# Altium footprint library X.PcbLib: 77 footprints (part 1 of 5)
Each footprint in its own frame and in the unit in brackets; x right, y up, seen from the top. Pads: shape width x height; smd on the part's side, far side on the other; paste and mask are expansions set on the pad; w line width, h text height; cw(c..) or ccw(c..) is an arc to the next point about the centre after c.
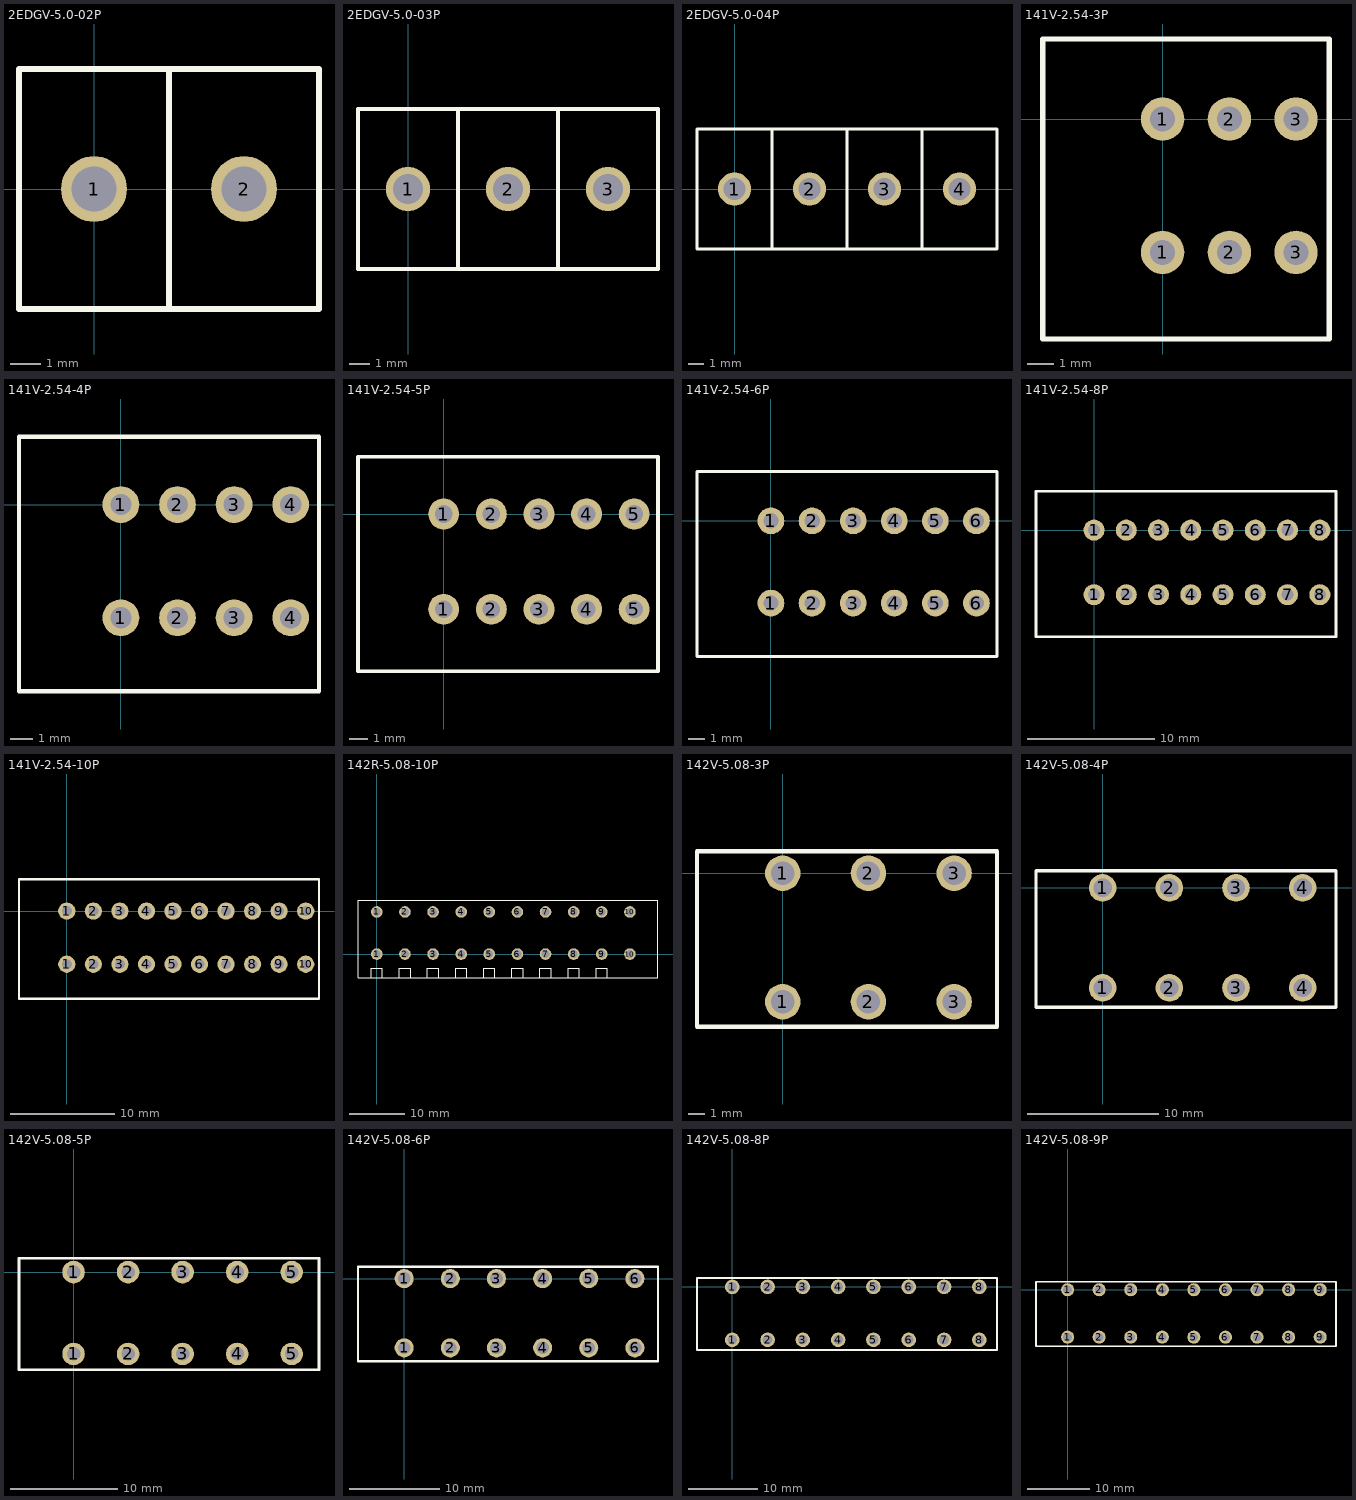
[diagram p0: the footprints below, top view; thin cyan lines are the x and y axes]

## 2EDGV-5.0-02P [mm]
pads (2):
  round 2.2 hole 1.5: 1(0,0) 2(5,0)
Top Overlay:
  lines w0.2: 2.5,-4 2.5,4 ; -2.5,-4 7.5,-4 7.5,4 -2.5,4 -2.5,0 -2.5,-4
3D body: height 12, standoff 0, extent 4.572,-0.508 5.5,0.508
3D body: height 12, standoff 0, extent -0.508,-0.508 0.508,0.508
3D body: height 12, standoff 0, extent -2.54,-4 7.46,-3.302
3D body: height 12, standoff 0, extent -2.5,3.302 7.5,4
3D body: height 2, standoff 0, extent -2.5,-4 7.5,4

## 2EDGV-5.0-03P [mm]
pads (3):
  round 2.2 hole 1.5: 1(0,0) 2(5,0) 3(10,0)
Top Overlay:
  lines w0.2: 2.5,-4 2.5,4 ; 7.5,-4 7.5,4 ; 7.5,-4 -2.5,-4 -2.5,0 -2.5,4 7.5,4 ; 7.5,-4 12.5,-4 12.5,4 7.5,4
3D body: height 12, standoff 0, extent -2.5,-4 7.5,4
3D body: height 12, standoff 0, extent 7.5,-4 12.5,4

## 2EDGV-5.0-04P [mm]
pads (4):
  round 2.2 hole 1.5: 1(0,0) 2(5,0) 3(10,0) 4(15,0)
Top Overlay:
  lines w0.2: 2.5,-4 2.5,4 ; 12.5,-4 12.5,4 ; 7.5,-4 7.5,4 ; 7.5,-4 -2.5,-4 -2.5,0 -2.5,4 7.5,4 ; 7.5,-4 17.5,-4 17.5,4 7.5,4
3D body: height 12, standoff 0, extent -2.5,-4 7.5,4
3D body: height 12, standoff 0, extent 7.5,-4 17.5,4

## 141V-2.54-3P [mm] "TERM BLK 3POS TOP ENT 2.54MM PCB"
height 13.6
pads (6):
  round 1.65 hole 0.95: 1(0,-5.08) 1(0,0) 2(2.54,-5.08) 2(2.54,0) 3(5.08,-5.08) 3(5.08,0)
Top Overlay:
  lines w0.2: -4.572,-8.382 6.35,-8.382 6.35,3.048 -4.572,3.048 -4.572,-4.609 -4.572,-8.382
3D body: height 13.6, standoff 0, extent -4.572,-8.382 -1.524,3.048
3D body: height 13.6, standoff 0, extent -1.524,-8.382 1.016,3.048
3D body: height 13.6, standoff 0, extent 1.016,-8.382 3.556,3.048
3D body: height 13.6, standoff 0, extent 3.556,-8.382 6.096,3.048
3D body: height 14, standoff 6, extent 4.318,-9.906 5.842,-7.62
3D body: height 14, standoff 6, extent 1.778,-9.906 3.302,-7.62
3D body: height 14, standoff 6, extent -0.762,-9.906 0.762,-7.62

## 141V-2.54-4P [mm] "TERM BLK 4POS TOP ENT 2.54MM PCB"
height 13.6
pads (8):
  round 1.65 hole 0.95: 1(0,-5.08) 1(0,0) 2(2.54,-5.08) 2(2.54,0) 3(5.08,-5.08) 3(5.08,0) 4(7.62,-5.08) 4(7.62,0)
Top Overlay:
  lines w0.2: -4.572,-8.382 8.89,-8.382 8.89,3.048 -4.572,3.048 -4.572,-4.609 -4.572,-8.382
3D body: height 14, standoff 6, extent 6.858,-9.906 8.382,-7.62
3D body: height 13.6, standoff 0, extent 6.096,-8.382 8.636,3.048
3D body: height 13.6, standoff 0, extent -4.572,-8.382 -1.524,3.048
3D body: height 13.6, standoff 0, extent -1.524,-8.382 1.016,3.048
3D body: height 13.6, standoff 0, extent 1.016,-8.382 3.556,3.048
3D body: height 13.6, standoff 0, extent 3.556,-8.382 6.096,3.048
3D body: height 14, standoff 6, extent 4.318,-9.906 5.842,-7.62
3D body: height 14, standoff 6, extent 1.778,-9.906 3.302,-7.62
3D body: height 14, standoff 6, extent -0.762,-9.906 0.762,-7.62

## 141V-2.54-5P [mm] "TERM BLK 5POS TOP ENT 2.54MM PCB"
height 13.6
pads (10):
  round 1.65 hole 0.95: 1(0,-5.08) 1(0,0) 2(2.54,-5.08) 2(2.54,0) 3(5.08,-5.08) 3(5.08,0) 4(7.62,-5.08) 4(7.62,0) 5(10.16,-5.08) 5(10.16,0)
Top Overlay:
  lines w0.2: -4.572,-8.382 -4.572,-4.609 -4.572,3.048 11.43,3.048 11.43,-8.382 -4.572,-8.382
3D body: height 14, standoff 6, extent -0.762,-9.906 0.762,-7.62
3D body: height 14, standoff 6, extent 1.778,-9.906 3.302,-7.62
3D body: height 14, standoff 6, extent 4.318,-9.906 5.842,-7.62
3D body: height 13.6, standoff 0, extent 3.556,-8.382 6.096,3.048
3D body: height 13.6, standoff 0, extent 1.016,-8.382 3.556,3.048
3D body: height 13.6, standoff 0, extent -1.524,-8.382 1.016,3.048
3D body: height 13.6, standoff 0, extent -4.572,-8.382 -1.524,3.048
3D body: height 14, standoff 6, extent 6.858,-9.906 8.382,-7.62
3D body: height 13.6, standoff 0, extent 6.096,-8.382 8.636,3.048
3D body: height 14, standoff 6, extent 9.398,-9.906 10.922,-7.62
3D body: height 13.6, standoff 0, extent 8.636,-8.382 11.176,3.048

## 141V-2.54-6P [mm] "TERM BLK 6POS TOP ENT 2.54MM PCB"
height 13.6
pads (12):
  round 1.65 hole 0.95: 1(0,-5.08) 1(0,0) 2(2.54,-5.08) 2(2.54,0) 3(5.08,-5.08) 3(5.08,0) 4(7.62,-5.08) 4(7.62,0) 5(10.16,-5.08) 5(10.16,0) 6(12.7,-5.08) 6(12.7,0)
Top Overlay:
  lines w0.2: -4.572,-8.382 -4.572,-4.609 -4.572,3.048 13.97,3.048 13.97,-8.382 -4.572,-8.382
3D body: height 14, standoff 6, extent -0.762,-9.906 0.762,-7.62
3D body: height 14, standoff 6, extent 1.778,-9.906 3.302,-7.62
3D body: height 14, standoff 6, extent 4.318,-9.906 5.842,-7.62
3D body: height 13.6, standoff 0, extent 3.556,-8.382 6.096,3.048
3D body: height 13.6, standoff 0, extent 1.016,-8.382 3.556,3.048
3D body: height 13.6, standoff 0, extent -1.524,-8.382 1.016,3.048
3D body: height 13.6, standoff 0, extent -4.572,-8.382 -1.524,3.048
3D body: height 14, standoff 6, extent 6.858,-9.906 8.382,-7.62
3D body: height 13.6, standoff 0, extent 6.096,-8.382 8.636,3.048
3D body: height 14, standoff 6, extent 9.398,-9.906 10.922,-7.62
3D body: height 13.6, standoff 0, extent 8.636,-8.382 11.176,3.048
3D body: height 14, standoff 6, extent 11.938,-9.906 13.462,-7.62
3D body: height 13.6, standoff 0, extent 11.176,-8.382 13.716,3.048

## 141V-2.54-8P [mm] "TERM BLK 8POS TOP ENT 2.54MM PCB"
height 13.6
pads (16):
  round 1.65 hole 0.95: 1(0,-5.08) 1(0,0) 2(2.54,-5.08) 2(2.54,0) 3(5.08,-5.08) 3(5.08,0) 4(7.62,-5.08) 4(7.62,0) 5(10.16,-5.08) 5(10.16,0) 6(12.7,-5.08) 6(12.7,0) 7(15.24,-5.08) 7(15.24,0) 8(17.78,-5.08) 8(17.78,0)
Top Overlay:
  lines w0.2: -4.572,-8.382 -4.572,-4.609 -4.572,3.048 19.05,3.048 19.05,-8.382 -4.572,-8.382
3D body: height 14, standoff 6, extent -0.762,-9.906 0.762,-7.62
3D body: height 14, standoff 6, extent 1.778,-9.906 3.302,-7.62
3D body: height 14, standoff 6, extent 4.318,-9.906 5.842,-7.62
3D body: height 13.6, standoff 0, extent 3.556,-8.382 6.096,3.048
3D body: height 13.6, standoff 0, extent 1.016,-8.382 3.556,3.048
3D body: height 13.6, standoff 0, extent -1.524,-8.382 1.016,3.048
3D body: height 13.6, standoff 0, extent -4.572,-8.382 -1.524,3.048
3D body: height 14, standoff 6, extent 6.858,-9.906 8.382,-7.62
3D body: height 13.6, standoff 0, extent 6.096,-8.382 8.636,3.048
3D body: height 14, standoff 6, extent 9.398,-9.906 10.922,-7.62
3D body: height 13.6, standoff 0, extent 8.636,-8.382 11.176,3.048
3D body: height 14, standoff 6, extent 11.938,-9.906 13.462,-7.62
3D body: height 13.6, standoff 0, extent 11.176,-8.382 13.716,3.048
3D body: height 14, standoff 6, extent 14.478,-9.906 16.002,-7.62
3D body: height 13.6, standoff 0, extent 13.716,-8.382 16.256,3.048
3D body: height 14, standoff 6, extent 17.018,-9.906 18.542,-7.62
3D body: height 13.6, standoff 0, extent 16.256,-8.382 18.796,3.048

## 141V-2.54-10P [mm] "TERM BLK 10POS TOP ENT 2.54MM PCB"
height 13.6
pads (20):
  round 1.65 hole 0.95: 1(0,-5.08) 1(0,0) 2(2.54,-5.08) 2(2.54,0) 3(5.08,-5.08) 3(5.08,0) 4(7.62,-5.08) 4(7.62,0) 5(10.16,-5.08) 5(10.16,0) 6(12.7,-5.08) 6(12.7,0) 7(15.24,-5.08) 7(15.24,0) 8(17.78,-5.08) 8(17.78,0) 9(20.32,-5.08) 9(20.32,0) 10(22.86,-5.08) 10(22.86,0)
Top Overlay:
  lines w0.2: -4.572,-8.382 24.13,-8.382 24.13,3.048 -4.572,3.048 -4.572,-4.609 -4.572,-8.382
3D body: height 13.6, standoff 0, extent 21.336,-8.382 23.876,3.048
3D body: height 14, standoff 6, extent 22.098,-9.906 23.622,-7.62
3D body: height 13.6, standoff 0, extent 18.796,-8.382 21.336,3.048
3D body: height 14, standoff 6, extent 19.558,-9.906 21.082,-7.62
3D body: height 13.6, standoff 0, extent 16.256,-8.382 18.796,3.048
3D body: height 14, standoff 6, extent 17.018,-9.906 18.542,-7.62
3D body: height 13.6, standoff 0, extent 13.716,-8.382 16.256,3.048
3D body: height 14, standoff 6, extent 14.478,-9.906 16.002,-7.62
3D body: height 13.6, standoff 0, extent 11.176,-8.382 13.716,3.048
3D body: height 14, standoff 6, extent 11.938,-9.906 13.462,-7.62
3D body: height 13.6, standoff 0, extent 8.636,-8.382 11.176,3.048
3D body: height 14, standoff 6, extent 9.398,-9.906 10.922,-7.62
3D body: height 13.6, standoff 0, extent 6.096,-8.382 8.636,3.048
3D body: height 14, standoff 6, extent 6.858,-9.906 8.382,-7.62
3D body: height 13.6, standoff 0, extent -4.572,-8.382 -1.524,3.048
3D body: height 13.6, standoff 0, extent -1.524,-8.382 1.016,3.048
3D body: height 13.6, standoff 0, extent 1.016,-8.382 3.556,3.048
3D body: height 13.6, standoff 0, extent 3.556,-8.382 6.096,3.048
3D body: height 14, standoff 6, extent 4.318,-9.906 5.842,-7.62
3D body: height 14, standoff 6, extent 1.778,-9.906 3.302,-7.62
3D body: height 14, standoff 6, extent -0.762,-9.906 0.762,-7.62

## 142R-5.08-10P [mm] "TERM BLOCK 10POS RIGHT ANGLE 5.08MM PCB"
pads (20):
  round 2.1 hole 1.4: 1(0,0) 1(0,7.62) 2(5.08,0) 2(5.08,7.62) 3(10.16,0) 3(10.16,7.62) 4(15.24,0) 4(15.24,7.62) 5(20.32,0) 5(20.32,7.62) 6(25.4,0) 6(25.4,7.62) 7(30.48,0) 7(30.48,7.62) 8(35.56,0) 8(35.56,7.62) 9(40.64,0) 9(40.64,7.62) 10(45.72,0) 10(45.72,7.62)
Top Overlay:
  lines w0.2: -1.016,-4.267 -1.016,-2.54 1.016,-2.54 1.016,-4.267 ; 4.064,-4.267 4.064,-2.54 6.096,-2.54 6.096,-4.267 ; 9.144,-4.267 9.144,-2.54 11.176,-2.54 11.176,-4.267 ; 14.224,-4.267 14.224,-2.54 16.256,-2.54 16.256,-4.267 ; 19.304,-4.267 19.304,-2.54 21.336,-2.54 21.336,-4.267 ; 24.384,-4.267 24.384,-2.54 26.416,-2.54 26.416,-4.267 ; 29.464,-4.267 29.464,-2.54 31.496,-2.54 31.496,-4.267 ; 34.544,-4.267 34.544,-2.54 36.576,-2.54 36.576,-4.267 ; 39.624,-4.267 39.624,-2.54 41.656,-2.54 41.656,-4.267 ; 50.8,-1.524 50.8,9.144 ; 50.8,9.144 50.8,9.728 45.72,9.728 0,9.728 -3.378,9.728 -3.404,9.728 -3.404,9.144 -3.404,0 -3.404,-1.524 -3.404,-4.267 42.24,-4.267 50.8,-4.267 50.8,9.144
3D body: height 13.3, standoff 10.4, extent 46.97,-1.13 47.97,8.12
3D body: height 13.3, standoff 10.4, extent 43.22,-4.3 47.97,4.12
3D body: height 13.3, standoff 10.4, extent 1.25,-1.13 2.25,8.12
3D body: height 13.3, standoff 10.4, extent -2.5,-4.3 2.25,4.12
3D body: height 13.3, standoff 10.4, extent 6.33,-1.13 7.33,8.12
3D body: height 13.3, standoff 10.4, extent 2.58,-4.3 7.33,4.12
3D body: height 13.3, standoff 10.4, extent 11.41,-1.13 12.41,8.12
3D body: height 13.3, standoff 10.4, extent 7.66,-4.3 12.41,4.12
3D body: height 13.3, standoff 10.4, extent 16.49,-1.13 17.49,8.12
3D body: height 13.3, standoff 10.4, extent 12.74,-4.3 17.49,4.12
3D body: height 13.3, standoff 10.4, extent 21.57,-1.13 22.57,8.12
3D body: height 13.3, standoff 10.4, extent 17.82,-4.3 22.57,4.12
3D body: height 13.3, standoff 10.4, extent 26.65,-1.13 27.65,8.12
3D body: height 13.3, standoff 10.4, extent 22.9,-4.3 27.65,4.12
3D body: height 13.3, standoff 10.4, extent 31.73,-1.13 32.73,8.12
3D body: height 13.3, standoff 10.4, extent 27.98,-4.3 32.73,4.12
3D body: height 13.3, standoff 10.4, extent 36.81,-1.13 37.81,8.12
3D body: height 13.3, standoff 10.4, extent 33.06,-4.3 37.81,4.12
3D body: height 13.3, standoff 10.4, extent 41.89,-1.13 42.89,8.12
3D body: height 13.3, standoff 10.4, extent 38.14,-4.3 42.89,4.12
3D body: height 10.4, standoff 0, extent -3.4,-4.3 50.8,9.7
3D body: height 9, standoff 6, extent 3.486,-4.8 6.474,-3.3
3D body: height 9, standoff 6, extent 8.566,-4.8 11.554,-3.3
3D body: height 9, standoff 6, extent 18.726,-4.8 21.714,-3.3
3D body: height 9, standoff 6, extent 23.806,-4.8 26.794,-3.3
3D body: height 9, standoff 6, extent 33.966,-4.8 36.954,-3.3
3D body: height 9, standoff 6, extent 44.126,-4.8 47.114,-3.3
3D body: height 9, standoff 6, extent -1.594,-4.8 1.394,-3.3
3D body: height 9, standoff 6, extent 13.646,-4.8 16.634,-3.3
3D body: height 9, standoff 6, extent 28.886,-4.8 31.874,-3.3
3D body: height 9, standoff 6, extent 39.046,-4.8 42.034,-3.3
3D body: height 1.27, standoff 0, extent 0.2,-5.1 0.2,-5.1

## 142V-5.08-3P [mm] "TERM BLOCK 3POS VERTICAL 5.08MM PCB"
height 14.1
pads (6):
  round 2.1 hole 1.4: 1(0,-7.62) 1(0,0) 2(5.08,-7.62) 2(5.08,0) 3(10.16,-7.62) 3(10.16,0)
Top Overlay:
  lines w0.254: -5.08,-9.1 -5.08,1.3 12.7,1.3 12.7,-9.1 -5.08,-9.1
3D body: height 14.1, standoff 8, extent 2.54,-11.938 7.112,-8.89
3D body: height 14.1, standoff 8, extent -2.54,-11.938 2.032,-8.89
3D body: height 14.1, standoff 8, extent 7.62,-11.938 12.192,-8.89
3D body: height 9, standoff 2, extent 7.62,-11.938 8.636,-8.89
3D body: height 9, standoff 2, extent -2.54,-11.938 -1.524,-8.89
3D body: height 9, standoff 2, extent 2.54,-11.938 3.556,-8.89
3D body: height 14.1, standoff 0, extent -5.08,-9.1 12.7,1.3
3D body: height 14.2, standoff 14.1, extent -1.494,-7.847 1.494,-4.853
3D body: height 14.2, standoff 14.1, extent 8.666,-7.847 11.654,-4.853
3D body: height 14.2, standoff 14.1, extent 3.586,-7.847 6.574,-4.853

## 142V-5.08-4P [mm] "TERM BLOCK 4POS VERTICAL 5.08MM PCB"
height 14.1
pads (8):
  round 2.1 hole 1.4: 1(0,-7.62) 1(0,0) 2(5.08,-7.62) 2(5.08,0) 3(10.16,-7.62) 3(10.16,0) 4(15.24,-7.62) 4(15.24,0)
Top Overlay:
  lines w0.254: -5.08,-9.1 17.78,-9.1 17.78,-7.137 17.78,1.3 -5.08,1.3 -5.08,-9.1
3D body: height 14.1, standoff 8, extent 2.54,-11.938 7.112,-8.89
3D body: height 14.1, standoff 8, extent 12.7,-11.938 17.272,-8.89
3D body: height 14.1, standoff 8, extent -2.54,-11.938 2.032,-8.89
3D body: height 9, standoff 2, extent 7.62,-11.938 8.636,-8.89
3D body: height 14.1, standoff 8, extent 7.62,-11.938 12.192,-8.89
3D body: height 9, standoff 2, extent -2.54,-11.938 -1.524,-8.89
3D body: height 9, standoff 2, extent 12.7,-11.938 13.716,-8.89
3D body: height 9, standoff 2, extent 2.54,-11.938 3.556,-8.89
3D body: height 14.1, standoff 0, extent -5.08,-9.1 17.78,1.3
3D body: height 14.2, standoff 14.1, extent 13.746,-7.847 16.734,-4.853
3D body: height 14.2, standoff 14.1, extent -1.494,-7.847 1.494,-4.853
3D body: height 14.2, standoff 14.1, extent 8.666,-7.847 11.654,-4.853
3D body: height 14.2, standoff 14.1, extent 3.586,-7.847 6.574,-4.853

## 142V-5.08-5P [mm] "TERM BLOCK 5POS VERTICAL 5.08MM PCB"
height 14.1
pads (10):
  round 2.1 hole 1.25: 1(0,-7.62) 1(0,0) 2(5.08,-7.62) 2(5.08,0) 3(10.16,-7.62) 3(10.16,0) 4(15.24,-7.62) 4(15.24,0) 5(20.32,-7.62) 5(20.32,0)
Top Overlay:
  lines w0.254: -5.08,-9.1 -5.08,1.3 22.86,1.3 22.86,-9.1 -5.08,-9.1
3D body: height 14.2, standoff 14.1, extent 3.586,-7.847 6.574,-4.853
3D body: height 14.2, standoff 14.1, extent 8.666,-7.847 11.654,-4.853
3D body: height 14.2, standoff 14.1, extent 18.826,-7.847 21.814,-4.853
3D body: height 14.2, standoff 14.1, extent -1.494,-7.847 1.494,-4.853
3D body: height 14.2, standoff 14.1, extent 13.746,-7.847 16.734,-4.853
3D body: height 14.1, standoff 0, extent -5.08,-9.1 22.86,1.3
3D body: height 9, standoff 2, extent 2.54,-11.938 3.556,-8.89
3D body: height 9, standoff 2, extent 12.7,-11.938 13.716,-8.89
3D body: height 9, standoff 2, extent -2.54,-11.938 -1.524,-8.89
3D body: height 14.1, standoff 8, extent 7.62,-11.938 12.192,-8.89
3D body: height 9, standoff 2, extent 7.62,-11.938 8.636,-8.89
3D body: height 14.1, standoff 8, extent 17.78,-11.938 22.352,-8.89
3D body: height 9, standoff 2, extent 17.78,-11.938 18.796,-8.89
3D body: height 14.1, standoff 8, extent -2.54,-11.938 2.032,-8.89
3D body: height 14.1, standoff 8, extent 12.7,-11.938 17.272,-8.89
3D body: height 14.1, standoff 8, extent 2.54,-11.938 7.112,-8.89

## 142V-5.08-6P [mm] "TERM BLOCK 6POS VERTICAL 5.08MM PCB"
height 14.1
pads (12):
  round 2.1 hole 1.4: 1(0,-7.62) 1(0,0) 2(5.08,-7.62) 2(5.08,0) 3(10.16,-7.62) 3(10.16,0) 4(15.24,-7.62) 4(15.24,0) 5(20.32,-7.62) 5(20.32,0) 6(25.4,-7.62) 6(25.4,0)
Top Overlay:
  lines w0.254: -5.08,-9.1 27.94,-9.1 27.94,1.3 -5.08,1.3 -5.08,-9.1
3D body: height 9, standoff 2, extent 2.54,-11.938 3.556,-8.89
3D body: height 9, standoff 2, extent 12.7,-11.938 13.716,-8.89
3D body: height 9, standoff 2, extent 22.86,-11.938 23.876,-8.89
3D body: height 9, standoff 2, extent -2.54,-11.938 -1.524,-8.89
3D body: height 9, standoff 2, extent 7.62,-11.938 8.636,-8.89
3D body: height 14.1, standoff 8, extent 7.62,-11.938 12.192,-8.89
3D body: height 9, standoff 2, extent 17.78,-11.938 18.796,-8.89
3D body: height 14.1, standoff 8, extent 17.78,-11.938 22.352,-8.89
3D body: height 14.1, standoff 8, extent -2.54,-11.938 2.032,-8.89
3D body: height 14.1, standoff 8, extent 12.7,-11.938 17.272,-8.89
3D body: height 14.1, standoff 8, extent 22.86,-11.938 27.432,-8.89
3D body: height 14.1, standoff 0, extent -5.08,-9.1 27.94,1.3
3D body: height 14.1, standoff 8, extent 2.54,-11.938 7.112,-8.89
3D body: height 14.2, standoff 14.1, extent 3.586,-7.847 6.574,-4.853
3D body: height 14.2, standoff 14.1, extent 8.666,-7.847 11.654,-4.853
3D body: height 14.2, standoff 14.1, extent 18.826,-7.847 21.814,-4.853
3D body: height 14.2, standoff 14.1, extent 23.906,-7.847 26.894,-4.853
3D body: height 14.2, standoff 14.1, extent -1.494,-7.847 1.494,-4.853
3D body: height 14.2, standoff 14.1, extent 13.746,-7.847 16.734,-4.853

## 142V-5.08-8P [mm] "TERM BLOCK 8POS VERTICAL 5.08MM PCB"
height 14.1
pads (16):
  round 2.1 hole 1.4: 1(0,-7.62) 1(0,0) 2(5.08,-7.62) 2(5.08,0) 3(10.16,-7.62) 3(10.16,0) 4(15.24,-7.62) 4(15.24,0) 5(20.32,-7.62) 5(20.32,0) 6(25.4,-7.62) 6(25.4,0) 7(30.48,-7.62) 7(30.48,0) 8(35.56,-7.62) 8(35.56,0)
Top Overlay:
  lines w0.254: -5.08,-9.1 38.1,-9.1 38.1,-3.023 38.1,1.3 -5.08,1.3 -5.08,-9.1
3D body: height 14.1, standoff 8, extent 2.54,-11.938 7.112,-8.89
3D body: height 14.1, standoff 8, extent 27.94,-11.938 32.512,-8.89
3D body: height 14.1, standoff 8, extent 12.7,-11.938 17.272,-8.89
3D body: height 14.1, standoff 8, extent 22.86,-11.938 27.432,-8.89
3D body: height 14.1, standoff 8, extent -2.54,-11.938 2.032,-8.89
3D body: height 14.1, standoff 8, extent 33.02,-11.938 37.592,-8.89
3D body: height 9, standoff 2, extent 27.94,-11.938 28.956,-8.89
3D body: height 9, standoff 2, extent 17.78,-11.938 18.796,-8.89
3D body: height 14.1, standoff 8, extent 17.78,-11.938 22.352,-8.89
3D body: height 9, standoff 2, extent 7.62,-11.938 8.636,-8.89
3D body: height 14.1, standoff 8, extent 7.62,-11.938 12.192,-8.89
3D body: height 9, standoff 2, extent -2.54,-11.938 -1.524,-8.89
3D body: height 9, standoff 2, extent 33.02,-11.938 34.036,-8.89
3D body: height 9, standoff 2, extent 22.86,-11.938 23.876,-8.89
3D body: height 9, standoff 2, extent 12.7,-11.938 13.716,-8.89
3D body: height 9, standoff 2, extent 2.54,-11.938 3.556,-8.89
3D body: height 14.1, standoff 0, extent -5.08,-9.1 38.1,1.3
3D body: height 14.2, standoff 14.1, extent 28.986,-7.847 31.974,-4.853
3D body: height 14.2, standoff 14.1, extent 13.746,-7.847 16.734,-4.853
3D body: height 14.2, standoff 14.1, extent -1.494,-7.847 1.494,-4.853
3D body: height 14.2, standoff 14.1, extent 34.066,-7.847 37.054,-4.853
3D body: height 14.2, standoff 14.1, extent 23.906,-7.847 26.894,-4.853
3D body: height 14.2, standoff 14.1, extent 18.826,-7.847 21.814,-4.853
3D body: height 14.2, standoff 14.1, extent 8.666,-7.847 11.654,-4.853
3D body: height 14.2, standoff 14.1, extent 3.586,-7.847 6.574,-4.853

## 142V-5.08-9P [mm] "TERM BLOCK 9POS VERTICAL 5.08MM PCB"
height 14.1
pads (18):
  round 2.1 hole 1.4: 1(0,-7.62) 1(0,0) 2(5.08,-7.62) 2(5.08,0) 3(10.16,-7.62) 3(10.16,0) 4(15.24,-7.62) 4(15.24,0) 5(20.32,-7.62) 5(20.32,0) 6(25.4,-7.62) 6(25.4,0) 7(30.48,-7.62) 7(30.48,0) 8(35.56,-7.62) 8(35.56,0) 9(40.64,-7.62) 9(40.64,0)
Top Overlay:
  lines w0.254: -5.08,-9.1 -5.08,1.3 43.18,1.3 43.18,-9.1 -5.08,-9.1
3D body: height 14.1, standoff 0, extent -5.08,-9.1 43.18,1.3
3D body: height 9, standoff 2, extent 2.54,-11.938 3.556,-8.89
3D body: height 9, standoff 2, extent 12.7,-11.938 13.716,-8.89
3D body: height 9, standoff 2, extent 22.86,-11.938 23.876,-8.89
3D body: height 9, standoff 2, extent 33.02,-11.938 34.036,-8.89
3D body: height 9, standoff 2, extent -2.54,-11.938 -1.524,-8.89
3D body: height 14.1, standoff 8, extent 7.62,-11.938 12.192,-8.89
3D body: height 9, standoff 2, extent 7.62,-11.938 8.636,-8.89
3D body: height 14.1, standoff 8, extent 17.78,-11.938 22.352,-8.89
3D body: height 9, standoff 2, extent 17.78,-11.938 18.796,-8.89
3D body: height 9, standoff 2, extent 27.94,-11.938 28.956,-8.89
3D body: height 14.1, standoff 8, extent 33.02,-11.938 37.592,-8.89
3D body: height 9, standoff 2, extent 38.1,-11.938 39.116,-8.89
3D body: height 14.1, standoff 8, extent -2.54,-11.938 2.032,-8.89
3D body: height 14.1, standoff 8, extent 22.86,-11.938 27.432,-8.89
3D body: height 14.1, standoff 8, extent 12.7,-11.938 17.272,-8.89
3D body: height 14.1, standoff 8, extent 27.94,-11.938 32.512,-8.89
3D body: height 14.1, standoff 8, extent 38.1,-11.938 42.672,-8.89
3D body: height 14.1, standoff 8, extent 2.54,-11.938 7.112,-8.89
3D body: height 14.2, standoff 14.1, extent 3.586,-7.847 6.574,-4.853
3D body: height 14.2, standoff 14.1, extent 8.666,-7.847 11.654,-4.853
3D body: height 14.2, standoff 14.1, extent 18.826,-7.847 21.814,-4.853
3D body: height 14.2, standoff 14.1, extent 23.906,-7.847 26.894,-4.853
3D body: height 14.2, standoff 14.1, extent 34.066,-7.847 37.054,-4.853
3D body: height 14.2, standoff 14.1, extent -1.494,-7.847 1.494,-4.853
3D body: height 14.2, standoff 14.1, extent 13.746,-7.847 16.734,-4.853
3D body: height 14.2, standoff 14.1, extent 28.986,-7.847 31.974,-4.853
3D body: height 14.2, standoff 14.1, extent 39.146,-7.847 42.134,-4.853